# Altium schematic symbol library 2199119-1.SchLib: 1 symbol
Pins are listed as number, name and electrical type; pins without a type are passive.

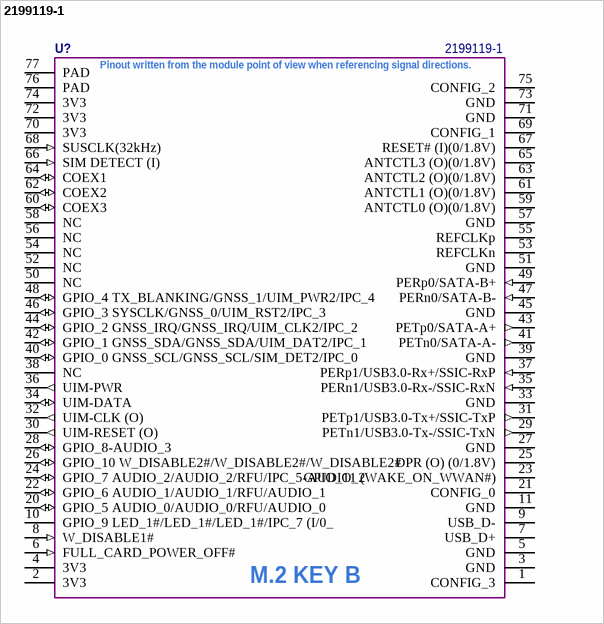
[diagram p0: symbol 2199119-1]

## 2199119-1
designator U?
Manufacture Part Number: 2199119-1
pins: 1 CONFIG_3, 2 3V3 (power), 3 GND, 4 3V3 (power), 5 GND, 6 FULL_CARD_POWER_OFF# (in) "1V8", 7 USB_D+, 8 W_DISABLE1# (in) "3V3", 9 USB_D-, 10 GPIO_9 LED_1#/LED_1#/LED_1#/IPC_7 (I/0_ (oc) "LED_1# 3V3 IPC_7", 11 GND, 20 GPIO_5 AUDIO_0/AUDIO_0/RFU/AUDIO_0 (io) "1V8", 21 CONFIG_0, 22 GPIO_6 AUDIO_1/AUDIO_1/RFU/AUDIO_1 (io) "1V8", 23 GPIO_11 (WAKE_ON_WWAN#), 24 GPIO_7 AUDIO_2/AUDIO_2/RFU/IPC_5-AUDIO_2 (io) "1V8", 25 DPR (O) (0/1.8V), 26 GPIO_10 W_DISABLE2#/W_DISABLE2#/W_DISABLE2# (io) "1V8", 27 GND, 28 GPIO_8-AUDIO_3 (io) "1V8", 29 PETn1/USB3.0-Tx-/SSIC-TxN (out), 30 UIM-RESET (O) (out), 31 PETp1/USB3.0-Tx+/SSIC-TxP (out), 32 UIM-CLK (O) (out), 33 GND, 34 UIM-DATA (io), 35 PERn1/USB3.0-Rx-/SSIC-RxN (in), 36 UIM-PWR (out), 37 PERp1/USB3.0-Rx+/SSIC-RxP (in), 38 NC, 39 GND, 40 GPIO_0 GNSS_SCL/GNSS_SCL/SIM_DET2/IPC_0 (io) "1V8", 41 PETn0/SATA-A- (out), 42 GPIO_1 GNSS_SDA/GNSS_SDA/UIM_DAT2/IPC_1 (io) "1V8", 43 PETp0/SATA-A+ (out), 44 GPIO_2 GNSS_IRQ/GNSS_IRQ/UIM_CLK2/IPC_2 (io) "1V8", 45 GND, 46 GPIO_3 SYSCLK/GNSS_0/UIM_RST2/IPC_3 (io) "1V8", 47 PERn0/SATA-B- (in), 48 GPIO_4 TX_BLANKING/GNSS_1/UIM_PWR2/IPC_4 (io) "1V8", 49 PERp0/SATA-B+ (in), 50 NC, 51 GND, 52 NC "3V3", 53 REFCLKn, 54 NC "3V3", 55 REFCLKp, 56 NC, 57 GND, 58 NC, 59 ANTCTL0 (O)(0/1.8V), 60 COEX3 (io) "1V8", 61 ANTCTL1 (O)(0/1.8V), 62 COEX2 (io) "1V8", 63 ANTCTL2 (O)(0/1.8V), 64 COEX1 (io) "1V8", 65 ANTCTL3 (O)(0/1.8V), 66 SIM DETECT (I) (in), 67 RESET# (I)(0/1.8V), 68 SUSCLK(32kHz) (in) "3V3", 69 CONFIG_1, 70 3V3 (power), 71 GND, 72 3V3 (power), 73 GND, 74 3V3 (power), 75 CONFIG_2, 76 PAD, 77 PAD
1 alternate drawing of the same symbol
text: Pinout written from the module point of view when referencing signal directions.; M.2 KEY B